# EAGLE library part ST1L08 (library st-microelectronics)
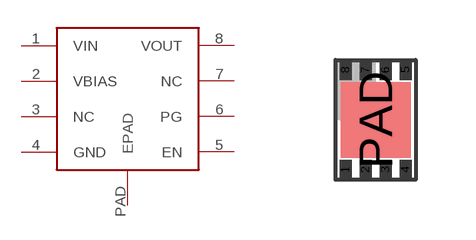
[diagram p50: symbol with the pads of ST1L08; footprint ST1L08]

Designator prefix -

## ST1L08  [ST1L08]
1  VIN
2  VBIAS
3  NC
4  GND
5  EN
6  PG
7  NC
8  VOUT
PAD  EPAD

## Footprint ST1L08 (pad centres in mm)
smd 0.3 x 0.5: 1 -0.75,-1.25; 2 -0.25,-1.25; 3 0.25,-1.25; 4 0.75,-1.25; 5 0.75,1.25; 6 0.25,1.25; 7 -0.25,1.25; 8 -0.75,1.25
smd 1.75 x 1.9: PAD 0,0